# Altium footprint library RC_Car_ATMEGA8.PcbLib: 23 footprints (part 2 of 2)
Each footprint in its own frame and in the unit in brackets; x right, y up, seen from the top. Pads: shape width x height; smd on the part's side, far side on the other; paste and mask are expansions set on the pad; w line width, h text height; cw(c..) or ccw(c..) is an arc to the next point about the centre after c.
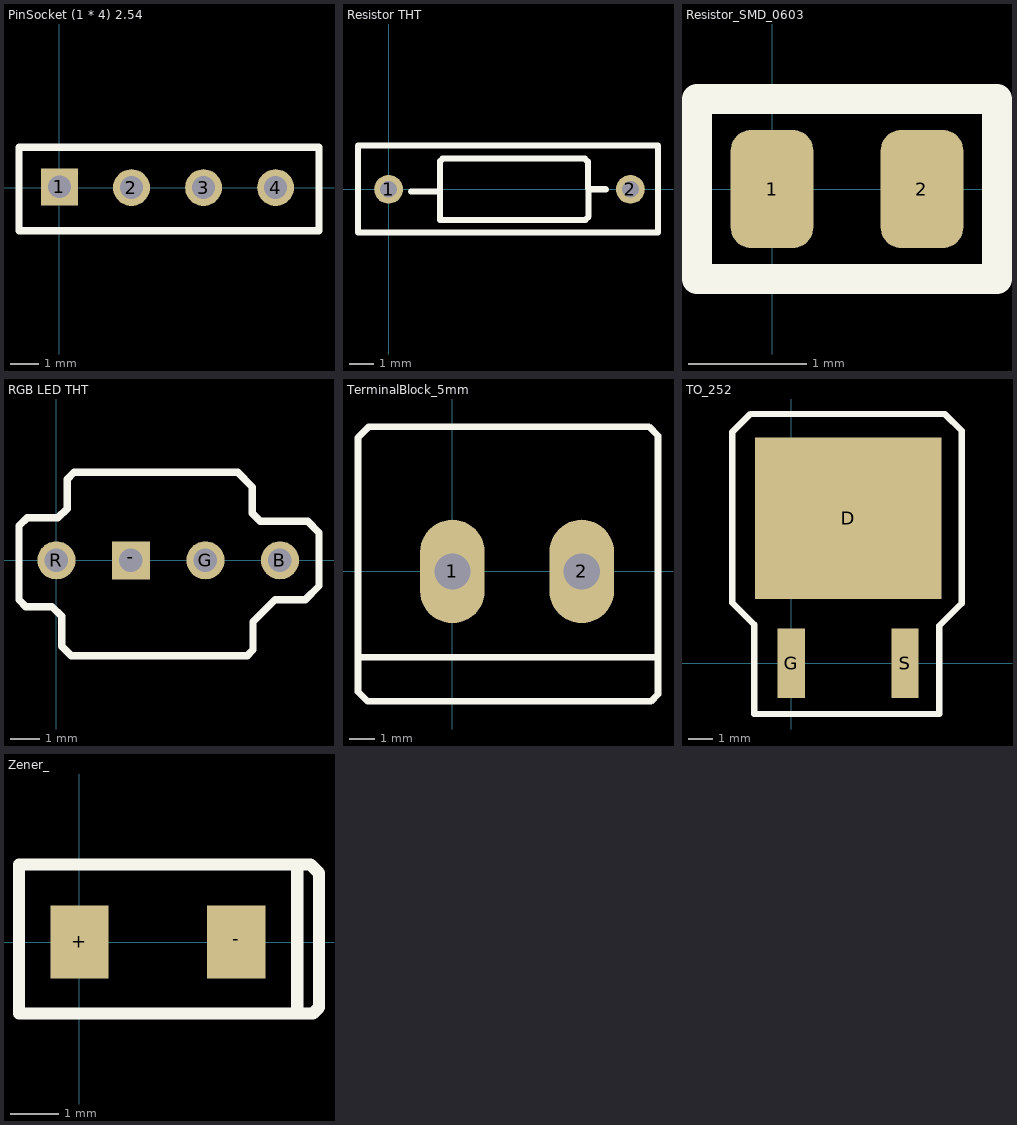
[diagram p1: the footprints below, top view; thin cyan lines are the x and y axes]

## PinSocket (1 * 4) 2.54 [mm]
pads (4):
  rect 1.3x1.3 hole 0.8 mask+0.102: 1(0,0.025)
  round 1.3 hole 0.8 mask+0.102: 2(2.54,0) 3(5.08,0) 4(7.62,0)
Top Overlay:
  lines w0.254: -1.425,-1.525 9.15,-1.525 9.15,1.425 -1.425,1.425 -1.425,-1.525
Assembly Notes:
  text ".Designator" at 1.075,-0.175 h0.6
3D body "PinSocket_1x04_P2.54mm_Vertical.step": height 7, standoff -3.1, extent -1.23,-1.315 8.93,1.225

## Resistor THT [mm]
pads (2):
  round 1.2 hole 0.7 mask+0.102: 1(0,0) 2(10.075,0)
Top Overlay:
  lines w0.254: 0.925,-0.1 2.1,-0.1 2.15,-0.05 ; 2.15,-0.05 2.15,-1.275 8.2,-1.275 8.338,-1.138 8.338,0.013 9.037,0.013 9.05,0 8.325,0 8.3,0.025 8.3,1.15 8.175,1.275 2.25,1.275 2.15,1.175 2.15,-0.05 ; -1.275,-1.8 11.225,-1.8 11.225,1.825 -1.275,1.825 -1.275,-1.8
Assembly Notes:
  text ".Designator" at 0.575,-0.35 h0.9
3D body "R_Axial_DIN0207_L6.3mm_D2.5mm_P10.16mm_Horizontal.step": height 2.49, standoff -3, extent -0.309,-1.245 10.451,1.255

## Resistor_SMD_0603 [mm]
pads (2):
  rrect50% 0.7x1 smd paste+0 mask+0.07: 1(0,0) 2(1.27,0)
Top Overlay:
  lines w0.254: -0.635,-0.762 -0.635,0.762 1.905,0.762 1.905,-0.762 -0.635,-0.762
Assembly Notes:
  text ".Designator" at -0.331,-0.137 h0.2
3D body "R_0603_1608Metric.step": height 0.45, standoff 0, extent -0.165,-0.4 1.435,0.4

## RGB LED THT [mm]
pads (4):
  rect 1.3x1.3 hole 0.8 mask+0.102: -(2.54,0)
  round 1.3 hole 0.8 mask+0.102: B(7.62,0) G(5.08,0) R(0,0)
Top Overlay:
  lines w0.254: -1.275,-1.35 -1.275,1.175 -1,1.45 0.05,1.45 0.363,1.763 0.363,2.763 0.6,3 0.675,3 6.175,3 6.675,2.5 6.675,1.6 6.95,1.325 8.567,1.325 8.95,0.942 8.95,-0.875 8.475,-1.35 7.45,-1.35 7.263,-1.538 6.887,-1.913 6.7,-2.1 6.7,-2.275 6.7,-3.05 6.5,-3.25 0.5,-3.25 0.175,-2.925 0.175,-1.9 -0.15,-1.575 -1.05,-1.575 -1.275,-1.35
3D body "LED_D5.0mm-4_RGB.step": height 11.6, standoff -2.5, extent 0.706,-2.92 6.094,2.875

## TerminalBlock_5mm [mm]
pads (2):
  oval 2.5x4 hole 1.4 mask+0.102: 1(0,0) 2(5,0)
Top Overlay:
  lines w0.254: -3.575,-3.325 7.925,-3.325 ; -3.65,-4.65 -3.275,-5.025 7.675,-5.025 7.95,-4.75 7.95,5.25 7.6,5.6 -3.225,5.6 -3.65,5.175 -3.65,-4.65
Assembly Notes:
  text ".Designator" at -0.3,-0.2 h0.6
3D body "TerminalBlock_Phoenix_MKDS-1,5-2_1x02_P5.00mm_Horizontal.step": height 13.8, standoff -3.5, extent -3.245,-4.7 7.495,5.1

## TO_252 [mm]
pads (3):
  rect 7.5x6.5 smd mask+0.102: D(2.286,5.825)
  rect 1.1x2.8 smd mask+0.102: G(0,0) S(4.572,0)
Top Overlay:
  lines w0.254: -2.375,2.425 -1.5,1.55 -1.5,-2.05 5.95,-2.05 5.95,1.5 6.85,2.4 6.85,9.35 6.175,10.025 -1.65,10.025 -2.375,9.3 -2.375,8.35 -2.375,2.425
Assembly Notes:
  text ".Designator" at -0.575,5.575 h0.6
3D body "TO-252-2.step": height 2.32, standoff 0, extent -0.975,-0.45 5.525,9.45

## Zener_ [mm]
pads (2):
  rect 1.2x1.5 smd mask+0.102: +(0,0) -(3.24,0)
Top Overlay:
  lines w0.254: 4.5,-1.475 -1.25,-1.475 -1.25,1.6 4.5,1.6 ; 4.5,-1.475 4.5,1.6 ; 4.5,-1.475 4.825,-1.475 4.95,-1.35 4.95,1.425 4.775,1.6 4.5,1.6
Assembly Notes:
  text ".Designator" at -1.125,-0.15 h0.6
3D body "D_SOD-123.step": height 1.25, standoff 0, extent -0.275,-0.775 3.525,0.825